# Altium schematic symbol library A-DF 09 A_KG-T2S.SchLib: 1 symbol
Pins are listed as number, name and electrical type; pins without a type are passive.

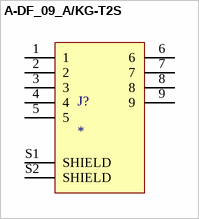
[diagram p0: symbol A-DF_09_A/KG-T2S]

## A-DF_09_A/KG-T2S
designator J?
Conn D-Subminiature F 9 POS 2.77mm Solder RA Thru-Hole 9 Terminal 1 Port; MP: A-DF_09_A/KG-T2S; MF: {'manufacturer': u'Assmann WSW'}; Availability: Unavailable; Value: *; Package: None; Price: None
footprint ASSMANN_A-DF09A/KG-T2S
pins: 1, 2, 3, 4, 5, 6, 7, 8, 9, S1 SHIELD, S2 SHIELD